# EAGLE library part USB-FEMALE (library Connector)
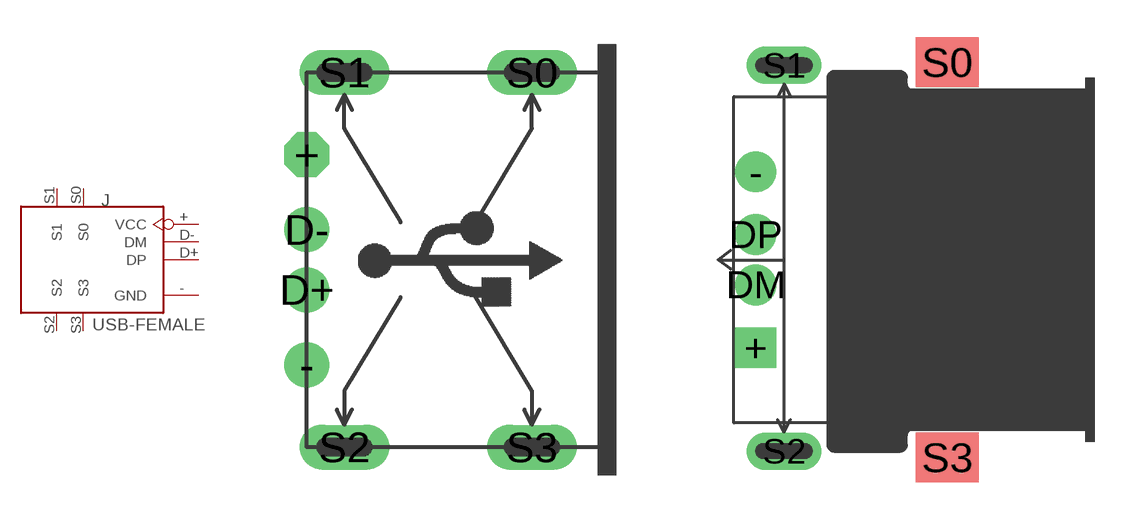
[diagram p1: symbol with the pads of FEMALE-12.7X10.16; footprints FEMALE-12.7X10.16, FEMALE-14.5X13.2]

Designator prefix J

## USB-FEMALE-10.16X12.7  [FEMALE-12.7X10.16]
+  VCC
-  GND
D+  DP
D-  DM
S0  S0
S1  S1
S2  S2
S3  S3

## USB-FEMALE-13.2X14.5  [FEMALE-14.5X13.2]
+  VCC
-  GND
DM  DM
DP  DP
S0  S0
S1  S1
S2  S2
S3  S3

## Footprint FEMALE-12.7X10.16 (pad centres in mm)
drill 0.813 pad 1.524 octagon: + 0,3.556
drill 0.813 pad 1.524: - 0,-3.556; D+ 0,-1.016; D- 0,1.016
drill 0.635 pad 1.524 long: S0 7.62,6.35; S1 1.27,6.35; S2 1.27,-6.35; S3 7.62,-6.35

## Footprint FEMALE-14.5X13.2 (pad centres in mm)
drill 0.813 pad 1.651 square: + 0.889,-3.556
drill 0.813 pad 1.651: - 0.889,3.556; DM 0.889,-1.016; DP 0.889,1.016
smd 2.54 x 2.032: S0 8.636,8.001; S3 8.636,-8.001
drill 0.635 pad 1.524 long: S1 2.032,7.874; S2 2.032,-7.747